# Altium schematic symbol library L78L05ACD13TR.SchLib: 1 symbol
Pins are listed as number, name and electrical type; pins without a type are passive.

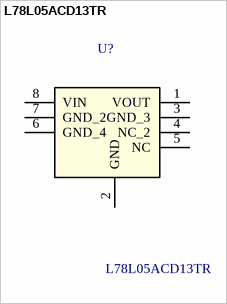
[diagram p0: symbol L78L05ACD13TR]

## L78L05ACD13TR
designator U?
L78L Series 20 V 100 mA Surface Mount Positive Voltage Regulator - SOIC-8; MF: STMicroelectronics; Package: SOIC-8 STMicroelectronics; MP: L78L05ACD13TR; SnapEDA_Link: https://www.snapeda.com/parts/L78L05ACD13TR/STMicroelectronics/view-part/?ref=snap; Price: None; Availability: Unavailable; Value: *
footprint SOIC127P600X175-8N
footprint SOIC127P600X175-8N
pins: 1 VOUT (power), 2 GND, 3 GND_3, 4 NC_2, 5 NC, 6 GND_4, 7 GND_2, 8 VIN (power)